# EAGLE library part N25Q032A (library N25Q032A)
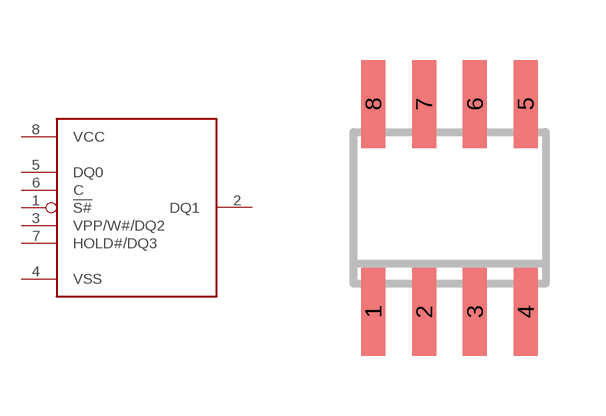
[diagram p0: symbol with the pads of SOIC8; footprint SOIC8]

Designator prefix -

## N25Q032A  [SOIC8]
1  !S#
2  DQ1
3  VPP/W#/DQ2
4  VSS
5  DQ0
6  C
7  HOLD#/DQ3
8  VCC

## Footprint SOIC8 (pad centres in mm)
Small Outline IC
smd 0.6 x 2.2: 1 -1.905,-2.6; 2 -0.635,-2.6; 3 0.635,-2.6; 4 1.905,-2.6; 5 1.905,2.6; 6 0.635,2.6; 7 -0.635,2.6; 8 -1.905,2.6